# Altium footprint library bornera.PcbLib: 1 footprints
Each footprint in its own frame and in the unit in brackets; x right, y up, seen from the top. Pads: shape width x height; smd on the part's side, far side on the other; paste and mask are expansions set on the pad; w line width, h text height; cw(c..) or ccw(c..) is an arc to the next point about the centre after c.
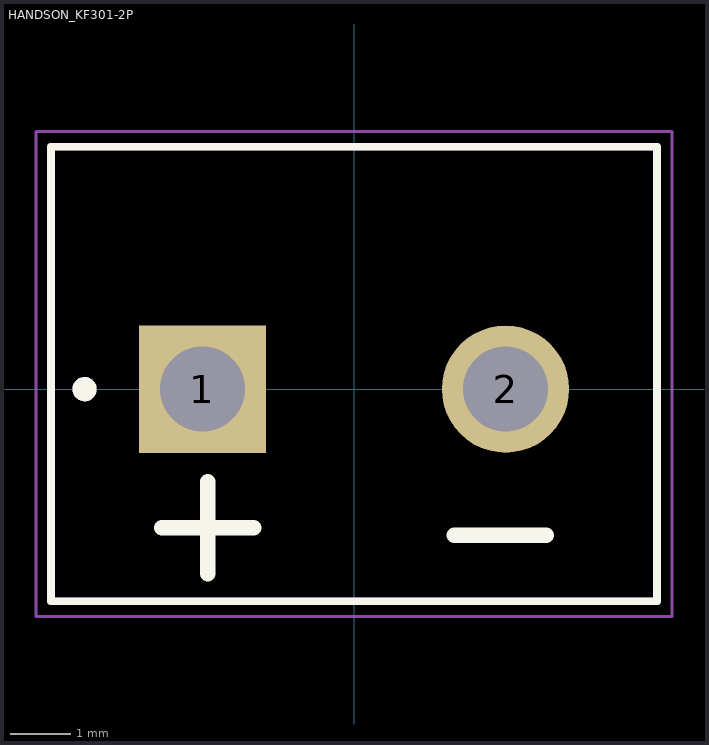
[diagram p0: the footprint, top view; thin cyan lines are the x and y axes]

## HANDSON_KF301-2P [mm]
pads (2):
  rect 2.1x2.1 hole 1.4: 1(-2.5,0)
  round 2.1 hole 1.4: 2(2.5,0)
Top Overlay:
  circle w0.2: c-4.445,0 r0.1
  lines w0.127: -5,-3.5 -5,4 5,4 5,-3.5 -5,-3.5
  lines w0.254: -3.175,-2.286 -1.651,-2.286 ; -2.413,-3.048 -2.413,-1.524 ; 1.651,-2.413 3.175,-2.413
Mechanical 13:
  circle w0.2: c-4.445,0 r0.1
  lines w0.127: -5,-3.5 5,-3.5 5,4 -5,4 -5,-3.5
Mechanical 15:
  lines w0.05: -5.25,-3.75 5.25,-3.75 5.25,4.25 -5.25,4.25 -5.25,-3.75
3D body "2000_mAh_Battery_1_1656012671.214.step": height 10.13, standoff 0.13, extent -16.347,-45.682 17.653,4.318
3D body "2000_mAh_Battery.stp": height 0, standoff 0, extent -2536.063,-2530.856 -2536.063,-2530.856
3D body "2000_mAh_Battery.stp": height 0, standoff 0, extent -2534.031,-2546.604 -2534.031,-2546.604
3D body "2000_mAh_Battery.stp": height 0, standoff 0, extent -2551.557,-2541.143 -2551.557,-2541.143
3D body "2000_mAh_Battery.stp": height 0, standoff 0, extent -2549.271,-2540.381 -2549.271,-2540.381
3D body "2000_mAh_Battery.stp": height 0, standoff 0, extent -2548.636,-2542.54 -2548.636,-2542.54
3D body "2000_mAh_Battery.stp": height 0, standoff 0, extent -1256.538,-1267.968 -1256.538,-1267.968